# Altium footprint library consubd.PcbLib: 91 footprints (part 3 of 6)
Each footprint in its own frame and in the unit in brackets; x right, y up, seen from the top. Pads: shape width x height; smd on the part's side, far side on the other; paste and mask are expansions set on the pad; w line width, h text height; cw(c..) or ccw(c..) is an arc to the next point about the centre after c.
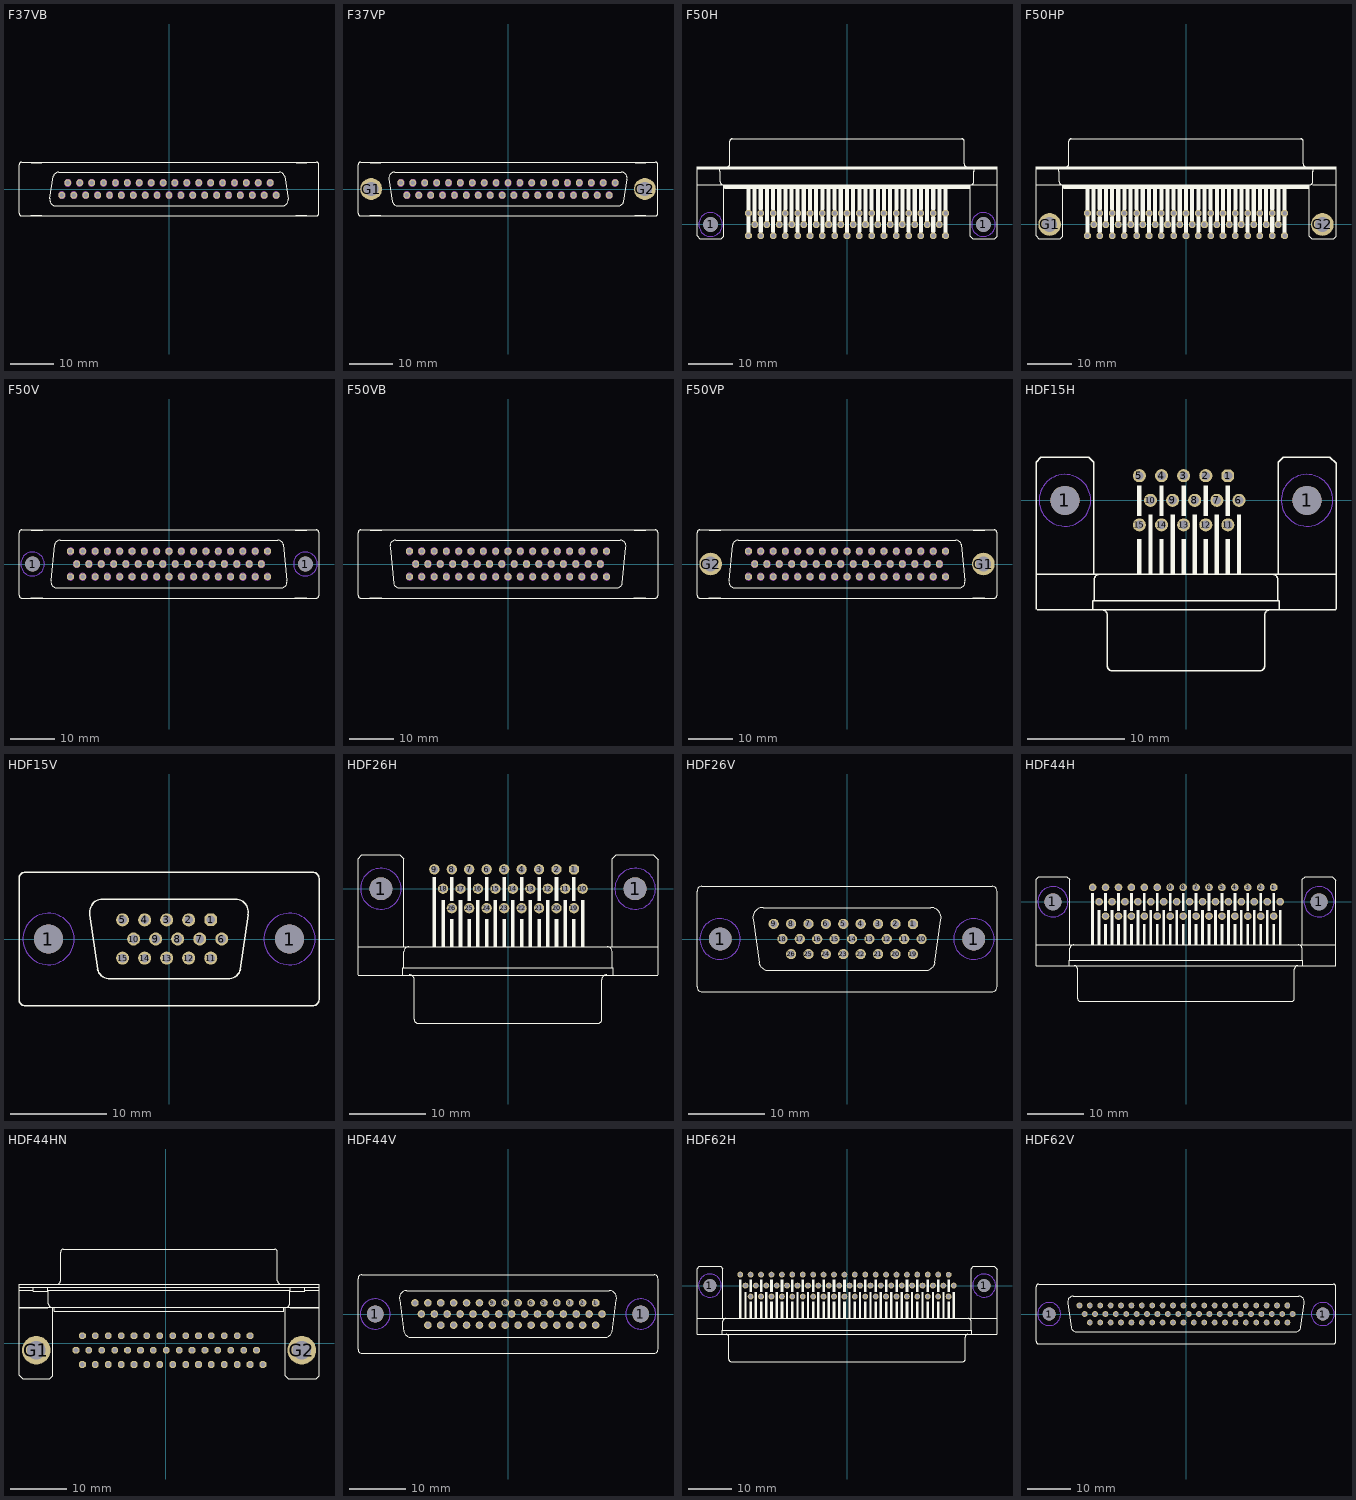
[diagram p2: the footprints below, top view; thin cyan lines are the x and y axes]

## F37VB [mil]
pads (37):
  oct 58.09x58.09 hole 40: 1(-978,-56) 2(-869,-56) 3(-761,-56) 4(-652,-56) 5(-543,-56) 6(-435,-56) 7(-326,-56) 8(-217,-56) 9(-109,-56) 10(0,-56) 11(109,-56) 12(217,-56) 13(326,-56) 14(435,-56) 15(544,-56) 16(652,-56) 17(761,-56) 18(870,-56) 19(978,-56) 20(-924,56) 21(-815,56) 22(-706,56) 23(-598,56) 24(-489,56) 25(-380,56) 26(-272,56) 27(-163,56) 28(-54,56) 29(54,56) 30(163,56) 31(272,56) 32(381,56) 33(489,56) 34(598,56) 35(707,56) 36(815,56) 37(924,56)
Top Overlay:
  lines w6: -1087,-91 -1056,115 ; -1086.79,-90.7 ccw(c-1035,-101.99) -1035,-155 1035,-155 ccw(c1035,-102) 1086.97,-91.61 ; -1056.52,114.37 cw(c-1004.99,102) -1005,155 1005,155 cw(c1005,101.99) 1056.3,115.33 ; 1056,116 1087,-92 ; -1260,-245 -1160,-245 ; -1260,-245 -1260,-240 -1160,-240 -1160,-245 ; -1260,-245 -1345,-245 cw(c-1345,-220) -1370,-220 -1370,220 cw(c-1345,220) -1345,245 -1260,245 ; -1260,245 -1260,240 -1160,240 -1160,245 ; -1260,245 -1160,245 ; -1160,-245 1160,-245 ; -1160,245 1160,245 ; 1160,-245 1260,-245 ; 1160,-245 1160,-240 1260,-240 1260,-245 ; 1160,245 1160,240 1260,240 1260,245 ; 1160,245 1260,245 ; 1260,-245 1345,-245 ccw(c1345,-220) 1370,-220 1370,220 ccw(c1345,220) 1345,245 1260,245
Mechanical 8:
  circle w10: c924,56 r30
  circle w10: c815,56 r30
  circle w10: c706,56 r30
  circle w10: c978,-56 r30
  circle w10: c869,-56 r30
  circle w10: c761,-56 r30
  circle w10: c-924,56 r30
  circle w10: c-815,56 r30
  circle w10: c-706,56 r30
  circle w10: c-978,-56 r30
  circle w10: c-869,-56 r30
  circle w10: c-761,-56 r30
  circle w10: c598,56 r30
  circle w10: c652,-56 r30
  circle w10: c543,-56 r30
  circle w10: c489,56 r30
  circle w10: c380,56 r30
  circle w10: c272,56 r30
  circle w10: c435,-56 r30
  circle w10: c326,-56 r30
  circle w10: c217,-56 r30
  circle w10: c-652,-56 r30
  circle w10: c-598,56 r30
  circle w10: c-543,-56 r30
  circle w10: c-489,56 r30
  circle w10: c-435,-56 r30
  circle w10: c-380,56 r30
  circle w10: c-272,56 r30
  circle w10: c-326,-56 r30
  circle w10: c-217,-56 r30
  circle w10: c163,56 r30
  circle w10: c-163,56 r30
  circle w10: c109,-56 r30
  circle w10: c-109,-56 r30
  circle w10: c54,56 r30
  circle w10: c0,-56 r30
  circle w10: c-54,56 r30

## F37VP [mil]
pads (39):
  oct 58.09x58.09 hole 40: 1(978,56) 2(869,56) 3(761,56) 4(652,56) 5(543,56) 6(435,56) 7(326,56) 8(217,56) 9(109,56) 10(0,56) 11(-109,56) 12(-217,56) 13(-326,56) 14(-435,56) 15(-544,56) 16(-652,56) 17(-761,56) 18(-870,56) 19(-978,56) 20(924,-56) 21(815,-56) 22(706,-56) 23(598,-56) 24(489,-56) 25(380,-56) 26(272,-56) 27(163,-56) 28(54,-56) 29(-54,-56) 30(-163,-56) 31(-272,-56) 32(-381,-56) 33(-489,-56) 34(-598,-56) 35(-707,-56) 36(-815,-56) 37(-924,-56)
  round 200 hole 130: G1(-1250,0) G2(1250,0)
Top Overlay:
  lines w6: -1087,92 -1056,-116 ; -1086.97,91.61 cw(c-1035,102) -1035,155 1035,155 cw(c1035,101.99) 1086.79,90.7 ; -1056.3,-115.33 ccw(c-1005,-101.99) -1005,-155 1005,-155 ccw(c1004.99,-102) 1056.52,-114.37 ; 1056,-115 1087,91 ; -1260,-245 -1345,-245 cw(c-1345,-220) -1370,-220 -1370,220 cw(c-1345,220) -1345,245 -1260,245 ; -1260,-245 -1160,-245 ; -1260,-245 -1260,-240 -1160,-240 -1160,-245 ; -1260,245 -1160,245 ; -1260,245 -1260,240 -1160,240 -1160,245 ; -1160,-245 1160,-245 ; -1160,245 1160,245 ; 1160,-245 1260,-245 ; 1160,-245 1160,-240 1260,-240 1260,-245 ; 1160,245 1260,245 ; 1160,245 1160,240 1260,240 1260,245 ; 1260,-245 1345,-245 ccw(c1345,-220) 1370,-220 1370,220 ccw(c1345,220) 1345,245 1260,245
Mechanical 8:
  circle w10: c-924,-56 r30
  circle w10: c-815,-56 r30
  circle w10: c-706,-56 r30
  circle w10: c-978,56 r30
  circle w10: c-869,56 r30
  circle w10: c-761,56 r30
  circle w10: c924,-56 r30
  circle w10: c815,-56 r30
  circle w10: c706,-56 r30
  circle w10: c978,56 r30
  circle w10: c869,56 r30
  circle w10: c761,56 r30
  circle w10: c-598,-56 r30
  circle w10: c-652,56 r30
  circle w10: c-543,56 r30
  circle w10: c-489,-56 r30
  circle w10: c-380,-56 r30
  circle w10: c-272,-56 r30
  circle w10: c-435,56 r30
  circle w10: c-326,56 r30
  circle w10: c-217,56 r30
  circle w10: c652,56 r30
  circle w10: c598,-56 r30
  circle w10: c543,56 r30
  circle w10: c489,-56 r30
  circle w10: c435,56 r30
  circle w10: c380,-56 r30
  circle w10: c272,-56 r30
  circle w10: c326,56 r30
  circle w10: c217,56 r30
  circle w10: c-163,-56 r30
  circle w10: c163,-56 r30
  circle w10: c-109,56 r30
  circle w10: c109,56 r30
  circle w10: c-54,-56 r30
  circle w10: c0,56 r30
  circle w10: c54,-56 r30

## F50H [mil]
pads (52):
  round 130 hole 130: 1(-1203,0) 1(1203,0)
  oct 58.09x58.09 hole 40: 1(-869,-100) 2(-761,-100) 3(-652,-100) 4(-543,-100) 5(-435,-100) 6(-326,-100) 7(-217,-100) 8(-109,-100) 9(0,-100) 10(109,-100) 11(217,-100) 12(326,-100) 13(435,-100) 14(543,-100) 15(652,-100) 16(761,-100) 17(869,-100) 18(-815,0) 19(-707,0) 20(-598,0) 21(-489,0) 22(-381,0) 23(-272,0) 24(-163,0) 25(-55,0) 26(54,0) 27(163,0) 28(271,0) 29(380,0) 30(489,0) 31(598,0) 32(706,0) 33(815,0) 34(-869,100) 35(-761,100) 36(-652,100) 37(-543,100) 38(-435,100) 39(-326,100) 40(-217,100) 41(-109,100) 42(0,100) 43(109,100) 44(217,100) 45(326,100) 46(435,100) 47(543,100) 48(652,100) 49(761,100) 50(869,100)
Top Layer keep-out:
  circle w0: c1203,0 r105
  circle w0: c-1203,0 r105
Bottom Layer keep-out:
  circle w0: c1203,0 r105
  circle w0: c-1203,0 r105
Top Overlay:
  drawing of 155 lines, arcs and shapes, not listed

## F50HP [mil]
pads (52):
  oct 58.09x58.09 hole 40: 1(-869,-100) 2(-761,-100) 3(-652,-100) 4(-543,-100) 5(-435,-100) 6(-326,-100) 7(-217,-100) 8(-109,-100) 9(0,-100) 10(109,-100) 11(217,-100) 12(326,-100) 13(435,-100) 14(543,-100) 15(652,-100) 16(761,-100) 17(869,-100) 18(-815,0) 19(-707,0) 20(-598,0) 21(-489,0) 22(-381,0) 23(-272,0) 24(-163,0) 25(-55,0) 26(54,0) 27(163,0) 28(271,0) 29(380,0) 30(489,0) 31(598,0) 32(706,0) 33(815,0) 34(-869,100) 35(-761,100) 36(-652,100) 37(-543,100) 38(-435,100) 39(-326,100) 40(-217,100) 41(-109,100) 42(0,100) 43(109,100) 44(217,100) 45(326,100) 46(435,100) 47(543,100) 48(652,100) 49(761,100) 50(869,100)
  round 200 hole 130: G1(-1203,0) G2(1203,0)
Top Overlay:
  drawing of 155 lines, arcs and shapes, not listed

## F50V [mil]
pads (52):
  round 130 hole 130: 1(-1203,0) 1(1203,0)
  oct 58.09x58.09 hole 40: 1(-869,-112) 2(-761,-112) 3(-652,-112) 4(-543,-112) 5(-435,-112) 6(-326,-112) 7(-217,-112) 8(-109,-112) 9(0,-112) 10(109,-112) 11(217,-112) 12(326,-112) 13(435,-112) 14(543,-112) 15(652,-112) 16(761,-112) 17(869,-112) 18(-815,0) 19(-706,0) 20(-598,0) 21(-489,0) 22(-380,0) 23(-272,0) 24(-163,0) 25(-54,0) 26(54,0) 27(163,0) 28(272,0) 29(380,0) 30(489,0) 31(598,0) 32(706,0) 33(815,0) 34(-869,112) 35(-761,112) 36(-652,112) 37(-543,112) 38(-435,112) 39(-326,112) 40(-217,112) 41(-109,112) 42(0,112) 43(109,112) 44(217,112) 45(326,112) 46(435,112) 47(543,112) 48(652,112) 49(761,112) 50(869,112)
Top Layer keep-out:
  circle w0: c-1203,0 r105
  circle w0: c1203,0 r105
Bottom Layer keep-out:
  circle w0: c-1203,0 r105
  circle w0: c1203,0 r105
Top Overlay:
  lines w6: -1040,-147 -1009,171 ; -1039.78,-146.7 ccw(c-988,-157.99) -988,-210.99 988,-211 ccw(c988,-158) 1039.97,-147.61 ; -1009.54,170.37 cw(c-957.99,158) -958,211.01 958,211 cw(c958,157.99) 1009.3,171.33 ; 1009,172 1040,-148 ; -1213,-301 -1298,-301 cw(c-1298,-276) -1323,-276 -1323,276 cw(c-1298,276) -1298,301 -1213,301 ; -1213,-301 -1213,-296 -1113,-296 -1113,-301 ; -1213,-301 -1113,-301 ; -1213,301 -1113,301 ; -1213,301 -1213,296 -1113,296 -1113,301 ; -1113,-301 1113,-301 ; -1113,301 1113,301 ; 1113,-301 1113,-296 1213,-296 1213,-301 ; 1113,-301 1213,-301 ; 1113,301 1213,301 ; 1113,301 1113,296 1213,296 1213,301 ; 1213,-301 1298,-301 ccw(c1298,-276) 1323,-276 1323,276 ccw(c1298,276) 1298,301 1213,301
Mechanical 8:
  circle w10: c-54,0 r30
  circle w10: c0,-112 r30
  circle w10: c54,0 r30
  circle w10: c-109,-112 r30
  circle w10: c109,-112 r30
  circle w10: c-163,0 r30
  circle w10: c163,0 r30
  circle w10: c-217,-112 r30
  circle w10: c-326,-112 r30
  circle w10: c-272,0 r30
  circle w10: c-380,0 r30
  circle w10: c-435,-112 r30
  circle w10: c-489,0 r30
  circle w10: c-543,-112 r30
  circle w10: c-598,0 r30
  circle w10: c-652,-112 r30
  circle w10: c217,-112 r30
  circle w10: c326,-112 r30
  circle w10: c435,-112 r30
  circle w10: c272,0 r30
  circle w10: c380,0 r30
  circle w10: c489,0 r30
  circle w10: c543,-112 r30
  circle w10: c652,-112 r30
  circle w10: c598,0 r30
  circle w10: c-761,-112 r30
  circle w10: c-869,-112 r30
  circle w10: c-706,0 r30
  circle w10: c-815,0 r30
  circle w10: c761,-112 r30
  circle w10: c869,-112 r30
  circle w10: c706,0 r30
  circle w10: c815,0 r30
  circle w10: c0,112 r30
  circle w10: c-109,112 r30
  circle w10: c109,112 r30
  circle w10: c-217,112 r30
  circle w10: c-326,112 r30
  circle w10: c-435,112 r30
  circle w10: c-543,112 r30
  circle w10: c-652,112 r30
  circle w10: c217,112 r30
  circle w10: c326,112 r30
  circle w10: c435,112 r30
  circle w10: c543,112 r30
  circle w10: c652,112 r30
  circle w10: c-761,112 r30
  circle w10: c-869,112 r30
  circle w10: c761,112 r30
  circle w10: c869,112 r30

## F50VB [mil]
pads (50):
  oct 58.09x58.09 hole 40: 1(869,112) 2(761,112) 3(652,112) 4(543,112) 5(435,112) 6(326,112) 7(217,112) 8(109,112) 9(0,112) 10(-109,112) 11(-217,112) 12(-326,112) 13(-435,112) 14(-543,112) 15(-652,112) 16(-761,112) 17(-869,112) 18(815,0) 19(706,0) 20(598,0) 21(489,0) 22(380,0) 23(272,0) 24(163,0) 25(54,0) 26(-54,0) 27(-163,0) 28(-272,0) 29(-380,0) 30(-489,0) 31(-598,0) 32(-706,0) 33(-815,0) 34(869,-112) 35(761,-112) 36(652,-112) 37(543,-112) 38(435,-112) 39(326,-112) 40(217,-112) 41(109,-112) 42(0,-112) 43(-109,-112) 44(-217,-112) 45(-326,-112) 46(-435,-112) 47(-543,-112) 48(-652,-112) 49(-761,-112) 50(-869,-112)
Top Overlay:
  lines w6: -1040,148 -1009,-172 ; -1039.97,147.61 cw(c-988,158) -988,211 988,211 cw(c988,157.99) 1039.78,146.7 ; -1009.3,-171.33 ccw(c-958,-157.99) -958,-211 958,-211 ccw(c957.99,-158) 1009.54,-170.37 ; 1009,-171 1040,147 ; -1213,-301 -1213,-296 -1113,-296 -1113,-301 ; -1213,-301 -1113,-301 ; -1213,-301 -1298,-301 cw(c-1298,-276) -1323,-276 -1323,276 cw(c-1298,276) -1298,301 -1213,301 ; -1213,301 -1213,296 -1113,296 -1113,301 ; -1213,301 -1113,301 ; -1113,-301 1113,-301 ; -1113,301 1113,301 ; 1113,-301 1113,-296 1213,-296 1213,-301 ; 1113,-301 1213,-301 ; 1113,301 1113,296 1213,296 1213,301 ; 1113,301 1213,301 ; 1213,-301 1298,-301 ccw(c1298,-276) 1323,-276 1323,276 ccw(c1298,276) 1298,301 1213,301
Mechanical 8:
  circle w10: c54,0 r30
  circle w10: c0,112 r30
  circle w10: c-54,0 r30
  circle w10: c109,112 r30
  circle w10: c-109,112 r30
  circle w10: c163,0 r30
  circle w10: c-163,0 r30
  circle w10: c217,112 r30
  circle w10: c326,112 r30
  circle w10: c272,0 r30
  circle w10: c380,0 r30
  circle w10: c435,112 r30
  circle w10: c489,0 r30
  circle w10: c543,112 r30
  circle w10: c598,0 r30
  circle w10: c652,112 r30
  circle w10: c-217,112 r30
  circle w10: c-326,112 r30
  circle w10: c-435,112 r30
  circle w10: c-272,0 r30
  circle w10: c-380,0 r30
  circle w10: c-489,0 r30
  circle w10: c-543,112 r30
  circle w10: c-652,112 r30
  circle w10: c-598,0 r30
  circle w10: c761,112 r30
  circle w10: c869,112 r30
  circle w10: c706,0 r30
  circle w10: c815,0 r30
  circle w10: c-761,112 r30
  circle w10: c-869,112 r30
  circle w10: c-706,0 r30
  circle w10: c-815,0 r30
  circle w10: c0,-112 r30
  circle w10: c109,-112 r30
  circle w10: c-109,-112 r30
  circle w10: c217,-112 r30
  circle w10: c326,-112 r30
  circle w10: c435,-112 r30
  circle w10: c543,-112 r30
  circle w10: c652,-112 r30
  circle w10: c-217,-112 r30
  circle w10: c-326,-112 r30
  circle w10: c-435,-112 r30
  circle w10: c-543,-112 r30
  circle w10: c-652,-112 r30
  circle w10: c761,-112 r30
  circle w10: c869,-112 r30
  circle w10: c-761,-112 r30
  circle w10: c-869,-112 r30

## F50VP [mil]
pads (52):
  oct 58.09x58.09 hole 40: 1(-869,-112) 2(-761,-112) 3(-652,-112) 4(-543,-112) 5(-435,-112) 6(-326,-112) 7(-217,-112) 8(-109,-112) 9(0,-112) 10(109,-112) 11(217,-112) 12(326,-112) 13(435,-112) 14(543,-112) 15(652,-112) 16(761,-112) 17(869,-112) 18(-815,0) 19(-706,0) 20(-598,0) 21(-489,0) 22(-380,0) 23(-272,0) 24(-163,0) 25(-54,0) 26(54,0) 27(163,0) 28(272,0) 29(380,0) 30(489,0) 31(598,0) 32(706,0) 33(815,0) 34(-869,112) 35(-761,112) 36(-652,112) 37(-543,112) 38(-435,112) 39(-326,112) 40(-217,112) 41(-109,112) 42(0,112) 43(109,112) 44(217,112) 45(326,112) 46(435,112) 47(543,112) 48(652,112) 49(761,112) 50(869,112)
  round 200 hole 130: G1(1203,0) G2(-1203,0)
Top Overlay:
  lines w6: -1040,-147 -1009,171 ; -1039.78,-146.7 ccw(c-988,-157.99) -988,-210.99 988,-211 ccw(c988,-158) 1039.97,-147.61 ; -1009.54,170.37 cw(c-957.99,158) -958,211.01 958,211 cw(c958,157.99) 1009.3,171.33 ; 1009,172 1040,-148 ; -1213,-301 -1298,-301 cw(c-1298,-276) -1323,-276 -1323,276 cw(c-1298,276) -1298,301 -1213,301 ; -1213,-301 -1213,-296 -1113,-296 -1113,-301 ; -1213,-301 -1113,-301 ; -1213,301 -1113,301 ; -1213,301 -1213,296 -1113,296 -1113,301 ; -1113,-301 1113,-301 ; -1113,301 1113,301 ; 1113,-301 1113,-296 1213,-296 1213,-301 ; 1113,-301 1213,-301 ; 1113,301 1213,301 ; 1113,301 1113,296 1213,296 1213,301 ; 1213,-301 1298,-301 ccw(c1298,-276) 1323,-276 1323,276 ccw(c1298,276) 1298,301 1213,301
Mechanical 8:
  circle w10: c-54,0 r30
  circle w10: c0,-112 r30
  circle w10: c54,0 r30
  circle w10: c-109,-112 r30
  circle w10: c109,-112 r30
  circle w10: c-163,0 r30
  circle w10: c163,0 r30
  circle w10: c-217,-112 r30
  circle w10: c-326,-112 r30
  circle w10: c-272,0 r30
  circle w10: c-380,0 r30
  circle w10: c-435,-112 r30
  circle w10: c-489,0 r30
  circle w10: c-543,-112 r30
  circle w10: c-598,0 r30
  circle w10: c-652,-112 r30
  circle w10: c217,-112 r30
  circle w10: c326,-112 r30
  circle w10: c435,-112 r30
  circle w10: c272,0 r30
  circle w10: c380,0 r30
  circle w10: c489,0 r30
  circle w10: c543,-112 r30
  circle w10: c652,-112 r30
  circle w10: c598,0 r30
  circle w10: c-761,-112 r30
  circle w10: c-869,-112 r30
  circle w10: c-706,0 r30
  circle w10: c-815,0 r30
  circle w10: c761,-112 r30
  circle w10: c869,-112 r30
  circle w10: c706,0 r30
  circle w10: c815,0 r30
  circle w10: c0,112 r30
  circle w10: c-109,112 r30
  circle w10: c109,112 r30
  circle w10: c-217,112 r30
  circle w10: c-326,112 r30
  circle w10: c-435,112 r30
  circle w10: c-543,112 r30
  circle w10: c-652,112 r30
  circle w10: c217,112 r30
  circle w10: c326,112 r30
  circle w10: c435,112 r30
  circle w10: c543,112 r30
  circle w10: c652,112 r30
  circle w10: c-761,112 r30
  circle w10: c-869,112 r30
  circle w10: c761,112 r30
  circle w10: c869,112 r30

## HDF15H [mm]
pads (17):
  round 3 hole 3: 1(-12.5,0) 1(12.5,0)
  oct 1.307x1.307 hole 0.9: 1(4.329,2.54)
  round 1.35 hole 0.9: 2(2.043,2.54) 3(-0.243,2.54) 4(-2.529,2.54) 5(-4.815,2.54) 6(5.472,0) 7(3.186,0) 8(0.9,0) 9(-1.386,0) 10(-3.672,0) 11(4.329,-2.54) 12(2.043,-2.54) 13(-0.243,-2.54) 14(-2.529,-2.54) 15(-4.815,-2.54)
Top Layer keep-out:
  circle w0: c-12.5,0 r2.667
  circle w0: c12.5,0 r2.667
Bottom Layer keep-out:
  circle w0: c-12.5,0 r2.667
  circle w0: c12.5,0 r2.667
Top Overlay:
  region: 4.129,-1.6 4.129,1.5 4.529,1.5 4.529,-1.6
  region: 1.843,-1.6 1.843,1.5 2.243,1.5 2.243,-1.6
  region: -0.443,-1.6 -0.443,1.5 -0.043,1.5 -0.043,-1.6
  region: -2.729,-1.6 -2.729,1.5 -2.329,1.5 -2.329,-1.6
  region: -5.015,-1.6 -5.015,1.5 -4.615,1.5 -4.615,-1.6
  region: 4.129,-7.6 4.129,-4 4.529,-4 4.529,-7.6
  region: 1.843,-7.6 1.843,-4 2.243,-4 2.243,-7.6
  region: -5.015,-7.6 -5.015,-4 -4.615,-4 -4.615,-7.6
  region: -2.729,-7.6 -2.729,-4 -2.329,-4 -2.329,-7.6
  region: -0.443,-7.6 -0.443,-4 -0.043,-4 -0.043,-7.6
  region: 5.272,-7.6 5.272,-1.5 5.672,-1.5 5.672,-7.6
  region: 2.986,-7.6 2.986,-1.5 3.386,-1.5 3.386,-7.6
  region: -3.872,-7.6 -3.872,-1.5 -3.472,-1.5 -3.472,-7.6
  region: -1.586,-7.6 -1.586,-1.5 -1.186,-1.5 -1.186,-7.6
  region: 0.7,-7.6 0.7,-1.5 1.1,-1.5 1.1,-7.6
  lines w0.152: -15.494,-11.276 -15.494,-7.62 ; -15.38,-11.294 15.476,-11.294 ; -9.614,-11.276 -9.614,-10.368 -9.487,-10.368 ; -9.525,-7.62 -9.525,3.937 -10.033,4.445 -14.986,4.445 -15.494,3.937 -15.494,-7.62 ; -8.852,-7.62 ccw(c-8.852,-8.255) -9.487,-8.255 -9.487,-10.368 ; -8.763,-11.284 cw(c-8.763,-11.919) -8.128,-11.919 -8.128,-17.099 ccw(c-7.62,-17.099) -7.62,-17.607 7.62,-17.607 ccw(c7.62,-17.099) 8.128,-17.099 8.128,-11.919 cw(c8.763,-11.919) 8.763,-11.284 ; 8.852,-7.62 cw(c8.852,-8.255) 9.487,-8.255 9.487,-10.368 ; 9.525,-7.62 9.525,3.937 10.033,4.445 14.859,4.445 15.494,3.81 15.494,-11.276 ; 9.614,-11.276 9.614,-10.368 9.487,-10.368 ; 15.475,-7.62 -15.494,-7.62 ; -9.487,-10.368 9.487,-10.368

## HDF15V [mm]
pads (17):
  round 3 hole 3: 1(-12.5,0) 1(12.5,0)
  oct 1.307x1.307 hole 0.9: 1(4.329,1.98)
  round 1.35 hole 0.9: 2(2.043,1.98) 3(-0.243,1.98) 4(-2.529,1.98) 5(-4.815,1.98) 6(5.472,0) 7(3.186,0) 8(0.9,0) 9(-1.386,0) 10(-3.672,0) 11(4.329,-1.98) 12(2.043,-1.98) 13(-0.243,-1.98) 14(-2.529,-1.98) 15(-4.815,-1.98)
Top Layer keep-out:
  circle w0: c-12.5,0 r2.667
  circle w0: c12.5,0 r2.667
Bottom Layer keep-out:
  circle w0: c-12.5,0 r2.667
  circle w0: c12.5,0 r2.667
Top Overlay:
  lines w0.152: -14.921,-6.923 cw(c-14.921,-6.288) -15.556,-6.288 -15.556,6.288 cw(c-14.921,6.288) -14.921,6.923 14.913,6.923 ; -14.913,-6.923 14.921,-6.923 ccw(c14.921,-6.288) 15.556,-6.288 15.556,6.288 ccw(c14.921,6.288) 14.921,6.923 ; -8.196,2.527 cw(c-6.876,2.791) -6.876,4.137 6.876,4.137 cw(c6.876,2.791) 8.191,2.504 ; -8.197,2.537 -7.409,-3.146 ; -7.417,-3.13 ccw(c-6.114,-2.791) -6.114,-4.137 6.114,-4.137 ccw(c6.114,-2.791) 7.417,-3.13 ; 7.409,-3.121 8.197,2.511

## HDF26H [mm]
pads (28):
  round 3 hole 3: 1(-16.65,0) 1(16.65,0)
  oct 1.307x1.307 hole 0.9: 1(8.639,2.54)
  round 1.35 hole 0.9: 2(6.353,2.54) 3(4.067,2.54) 4(1.781,2.54) 5(-0.505,2.54) 6(-2.791,2.54) 7(-5.077,2.54) 8(-7.363,2.54) 9(-9.649,2.54) 10(9.782,0) 11(7.496,0) 12(5.21,0) 13(2.924,0) 14(0.638,0) 15(-1.648,0) 16(-3.934,0) 17(-6.22,0) 18(-8.506,0) 19(8.639,-2.54) 20(6.353,-2.54) 21(4.067,-2.54) 22(1.781,-2.54) 23(-0.505,-2.54) 24(-2.791,-2.54) 25(-5.077,-2.54) 26(-7.363,-2.54)
Top Layer keep-out:
  circle w0: c16.65,0 r2.667
  circle w0: c-16.65,0 r2.667
Bottom Layer keep-out:
  circle w0: c16.65,0 r2.667
  circle w0: c-16.65,0 r2.667
Top Overlay:
  region: 5.01,-7.6 5.01,-1.5 5.41,-1.5 5.41,-7.6
  region: 2.724,-7.6 2.724,-1.5 3.124,-1.5 3.124,-7.6
  region: 0.438,-7.6 0.438,-1.5 0.838,-1.5 0.838,-7.6
  region: 7.296,-7.6 7.296,-1.5 7.696,-1.5 7.696,-7.6
  region: 9.582,-7.6 9.582,-1.5 9.982,-1.5 9.982,-7.6
  region: 3.867,-7.6 3.867,-4 4.267,-4 4.267,-7.6
  region: 1.581,-7.6 1.581,-4 1.981,-4 1.981,-7.6
  region: -0.705,-7.6 -0.705,-4 -0.305,-4 -0.305,-7.6
  region: 6.153,-7.6 6.153,-4 6.553,-4 6.553,-7.6
  region: 8.439,-7.6 8.439,-4 8.839,-4 8.839,-7.6
  region: -0.705,-1.6 -0.705,1.5 -0.305,1.5 -0.305,-1.6
  region: 1.581,-1.6 1.581,1.5 1.981,1.5 1.981,-1.6
  region: 3.867,-1.6 3.867,1.5 4.267,1.5 4.267,-1.6
  region: 6.153,-1.6 6.153,1.5 6.553,1.5 6.553,-1.6
  region: 8.439,-1.6 8.439,1.5 8.839,1.5 8.839,-1.6
  region: -6.42,-7.6 -6.42,-1.5 -6.02,-1.5 -6.02,-7.6
  region: -8.706,-7.6 -8.706,-1.5 -8.306,-1.5 -8.306,-7.6
  region: -4.134,-7.6 -4.134,-1.5 -3.734,-1.5 -3.734,-7.6
  region: -7.563,-7.6 -7.563,-4 -7.163,-4 -7.163,-7.6
  region: -5.277,-7.6 -5.277,-4 -4.877,-4 -4.877,-7.6
  region: -2.991,-7.6 -2.991,-4 -2.591,-4 -2.591,-7.6
  region: -1.848,-7.6 -1.848,-1.5 -1.448,-1.5 -1.448,-7.6
  region: -2.991,-1.6 -2.991,1.5 -2.591,1.5 -2.591,-1.6
  region: -5.277,-1.6 -5.277,1.5 -4.877,1.5 -4.877,-1.6
  region: -7.563,-1.6 -7.563,1.5 -7.163,1.5 -7.163,-1.6
  region: -9.849,-1.6 -9.849,1.5 -9.449,1.5 -9.449,-1.6
  region: -9.849,-7.6 -9.849,-1.5 -9.449,-1.5 -9.449,-7.6
  lines w0.152: -19.644,-11.276 -19.644,-7.62 ; -19.6,-11.3 19.6,-11.3 ; -13.764,-11.276 -13.764,-10.368 -13.637,-10.368 ; -13.675,-7.62 -13.675,3.937 -14.183,4.445 -19.136,4.445 -19.644,3.937 -19.644,-7.62 ; -13.002,-7.62 ccw(c-13.002,-8.255) -13.637,-8.255 -13.637,-10.368 ; -12.913,-11.284 cw(c-12.913,-11.919) -12.278,-11.919 -12.278,-17.099 ccw(c-11.77,-17.099) -11.77,-17.607 11.77,-17.607 ccw(c11.77,-17.099) 12.278,-17.099 12.278,-11.919 cw(c12.913,-11.919) 12.913,-11.284 ; 13.002,-7.62 cw(c13.002,-8.255) 13.637,-8.255 13.637,-10.368 ; 13.675,-7.62 13.675,3.937 14.183,4.445 19.009,4.445 19.644,3.81 19.644,-11.276 ; 13.764,-11.276 13.764,-10.368 13.637,-10.368 ; 19.556,-7.62 -19.644,-7.62 ; -13.637,-10.368 13.637,-10.368

## HDF26V [mm]
pads (28):
  round 3 hole 3: 1(-16.65,0) 1(16.65,0)
  oct 1.307x1.307 hole 0.9: 1(8.658,1.98)
  round 1.35 hole 0.9: 2(6.372,1.98) 3(4.086,1.98) 4(1.8,1.98) 5(-0.486,1.98) 6(-2.772,1.98) 7(-5.058,1.98) 8(-7.344,1.98) 9(-9.63,1.98) 10(9.801,0) 11(7.515,0) 12(5.229,0) 13(2.943,0) 14(0.657,0) 15(-1.629,0) 16(-3.915,0) 17(-6.201,0) 18(-8.487,0) 19(8.658,-1.98) 20(6.372,-1.98) 21(4.086,-1.98) 22(1.8,-1.98) 23(-0.486,-1.98) 24(-2.772,-1.98) 25(-5.058,-1.98) 26(-7.344,-1.98)
Top Layer keep-out:
  circle w0: c16.672,0 r2.667
  circle w0: c-16.672,0 r2.667
Bottom Layer keep-out:
  circle w0: c16.672,0 r2.667
  circle w0: c-16.672,0 r2.667
Top Overlay:
  lines w0.152: -19.071,-6.923 cw(c-19.071,-6.288) -19.706,-6.288 -19.706,6.288 cw(c-19.071,6.288) -19.071,6.923 19.063,6.923 ; -19.063,-6.923 19.071,-6.923 ccw(c19.071,-6.288) 19.706,-6.288 19.706,6.288 ccw(c19.071,6.288) 19.071,6.923 ; -12.347,2.537 -11.559,-3.146 ; -12.346,2.527 cw(c-11.026,2.791) -11.026,4.137 11.026,4.137 cw(c11.026,2.79) 12.342,2.504 ; -11.567,-3.13 ccw(c-10.264,-2.791) -10.264,-4.137 10.264,-4.137 ccw(c10.264,-2.791) 11.567,-3.13 ; 11.559,-3.121 12.347,2.511

## HDF44H [mm]
pads (46):
  round 3 hole 3: 1(-23.52,0) 1(23.52,0)
  oct 1.307x1.307 hole 0.9: 1(15.497,2.54)
  round 1.35 hole 0.9: 2(13.211,2.54) 3(10.925,2.54) 4(8.639,2.54) 5(6.353,2.54) 6(4.067,2.54) 7(1.781,2.54) 8(-0.505,2.54) 9(-2.791,2.54) 10(-5.077,2.54) 11(-7.363,2.54) 12(-9.649,2.54) 13(-11.935,2.54) 14(-14.221,2.54) 15(-16.507,2.54) 16(16.64,0) 17(14.354,0) 18(12.068,0) 19(9.782,0) 20(7.496,0) 21(5.21,0) 22(2.924,0) 23(0.638,0) 24(-1.648,0) 25(-3.934,0) 26(-6.22,0) 27(-8.506,0) 28(-10.792,0) 29(-13.078,0) 30(-15.364,0) 31(15.497,-2.54) 32(13.211,-2.54) 33(10.925,-2.54) 34(8.639,-2.54) 35(6.353,-2.54) 36(4.067,-2.54) 37(1.781,-2.54) 38(-0.505,-2.54) 39(-2.791,-2.54) 40(-5.077,-2.54) 41(-7.363,-2.54) 42(-9.649,-2.54) 43(-11.935,-2.54) 44(-14.221,-2.54)
Top Layer keep-out:
  circle w0: c23.52,0 r2.667
  circle w0: c-23.52,0 r2.667
Bottom Layer keep-out:
  circle w0: c23.52,0 r2.667
  circle w0: c-23.52,0 r2.667
Top Overlay:
  drawing of 74 lines, arcs and shapes, not listed

## HDF44HN [mil]
pads (46):
  oct 46.48x46.48 hole 32: 1(-580,-150) 2(-490,-150) 3(-400,-150) 4(-310,-150) 5(-220,-150) 6(-130,-150) 7(-40,-150) 8(50,-150) 9(140,-150) 10(230,-150) 11(320,-150) 12(410,-150) 13(500,-150) 14(590,-150) 15(680,-150) 16(-625,-50) 17(-535,-50) 18(-445,-50) 19(-355,-50) 20(-265,-50) 21(-175,-50) 22(-85,-50) 23(5,-50) 24(95,-50) 25(185,-50) 26(275,-50) 27(365,-50) 28(455,-50) 29(545,-50) 30(635,-50) 31(-580,50) 32(-490,50) 33(-400,50) 34(-310,50) 35(-220,50) 36(-130,50) 37(-40,50) 38(50,50) 39(140,50) 40(230,50) 41(320,50) 42(410,50) 43(500,50) 44(590,50)
  round 200 hole 130: G1(-903,-50) G2(951.43,-50)
Top Overlay:
  lines w6: -793,250 cw(c-793,275) -818,275 -818,370 ; -758,410 ccw(c-758,435) -733,435 -733,635 cw(c-713,635) -713,655 761.42,655 cw(c761.42,635) 781.42,635 781.42,435 ccw(c806.42,435) 806.42,410 ; 841.42,250 ccw(c841.42,275) 866.42,275 866.42,370 ; -1023,245 -1023,250 ; -1023,245 -823,245 -823,250 ; -1023,245 -1023,-225 -998,-250 -808,-250 -788,-230 -788,250 ; -1023,250 -823,250 ; -1023,250 -1023,370 ; -1023,370 -923,370 ; -1023,370 -1023,390 ; -1023,390 -1023,410 1071.42,410 1071.42,390 ; -1023,390 -923,390 ; -923,370 -923,390 ; -923,370 -923,360 -823,360 -823,370 ; -923,390 -823,390 ; -823,250 -788,250 ; -823,370 -823,390 ; -823,370 -818,370 ; -823,390 871.42,390 ; -818,370 866.42,370 ; -788,250 -778,250 ; -778,250 -778,220 826.42,220 826.42,250 ; -778,250 826.42,250 ; 826.42,250 836.42,250 ; 836.42,250 871.42,250 ; 836.42,250 836.42,-230 856.42,-250 1051.42,-250 1071.42,-230 1071.42,245 ; 866.42,370 871.42,370 ; 871.42,250 871.42,245 1071.42,245 ; 871.42,250 1071.42,250 ; 871.42,370 871.42,360 971.42,360 971.42,370 ; 871.42,370 871.42,390 ; 871.42,390 971.42,390 ; 971.42,370 971.42,390 ; 971.42,370 1071.42,370 ; 971.42,390 1071.42,390 ; 1071.42,245 1071.42,250 ; 1071.42,250 1071.42,370 ; 1071.42,370 1071.42,390

## HDF44V [mm]
pads (46):
  round 3 hole 3: 1(-23.52,0) 1(23.52,0)
  oct 1.307x1.307 hole 0.9: 1(15.516,1.98)
  round 1.35 hole 0.9: 2(13.23,1.98) 3(10.944,1.98) 4(8.658,1.98) 5(6.372,1.98) 6(4.086,1.98) 7(1.8,1.98) 8(-0.486,1.98) 9(-2.772,1.98) 10(-5.058,1.98) 11(-7.344,1.98) 12(-9.63,1.98) 13(-11.916,1.98) 14(-14.202,1.98) 15(-16.488,1.98) 16(16.659,0) 17(14.373,0) 18(12.087,0) 19(9.801,0) 20(7.515,0) 21(5.229,0) 22(2.943,0) 23(0.657,0) 24(-1.629,0) 25(-3.915,0) 26(-6.201,0) 27(-8.487,0) 28(-10.773,0) 29(-13.059,0) 30(-15.345,0) 31(15.516,-1.98) 32(13.23,-1.98) 33(10.944,-1.98) 34(8.658,-1.98) 35(6.372,-1.98) 36(4.086,-1.98) 37(1.8,-1.98) 38(-0.486,-1.98) 39(-2.772,-1.98) 40(-5.058,-1.98) 41(-7.344,-1.98) 42(-9.63,-1.98) 43(-11.916,-1.98) 44(-14.202,-1.98)
Top Layer keep-out:
  circle w0: c23.52,0 r2.667
  circle w0: c-23.52,0 r2.667
Bottom Layer keep-out:
  circle w0: c23.52,0 r2.667
  circle w0: c-23.52,0 r2.667
Top Overlay:
  lines w0.152: -25.941,-6.923 cw(c-25.941,-6.288) -26.576,-6.288 -26.576,6.288 cw(c-25.941,6.288) -25.941,6.923 25.933,6.923 ; -25.933,-6.923 25.941,-6.923 ccw(c25.941,-6.288) 26.576,-6.288 26.576,6.288 ccw(c25.941,6.288) 25.941,6.923 ; -19.216,2.527 cw(c-17.896,2.791) -17.896,4.137 17.896,4.137 cw(c17.896,2.791) 19.212,2.504 ; -19.217,2.537 -18.429,-3.146 ; -18.437,-3.13 ccw(c-17.134,-2.791) -17.134,-4.137 17.134,-4.137 ccw(c17.134,-2.791) 18.437,-3.13 ; 18.429,-3.121 19.217,2.511

## HDF62H [mm]
pads (64):
  round 3 hole 3: 1(-31.75,0) 1(31.75,0)
  oct 1.307x1.307 hole 0.9: 1(23.527,2.54)
  round 1.35 hole 0.9: 2(21.114,2.54) 3(18.701,2.54) 4(16.288,2.54) 5(13.875,2.54) 6(11.462,2.54) 7(9.049,2.54) 8(6.636,2.54) 9(4.223,2.54) 10(1.81,2.54) 11(-0.603,2.54) 12(-3.016,2.54) 13(-5.429,2.54) 14(-7.842,2.54) 15(-10.255,2.54) 16(-12.668,2.54) 17(-15.081,2.54) 18(-17.494,2.54) 19(-19.907,2.54) 20(-22.32,2.54) 21(-24.733,2.54) 22(24.734,0) 23(22.321,0) 24(19.908,0) 25(17.495,0) 26(15.082,0) 27(12.669,0) 28(10.256,0) 29(7.843,0) 30(5.43,0) 31(3.017,0) 32(0.604,0) 33(-1.809,0) 34(-4.222,0) 35(-6.635,0) 36(-9.048,0) 37(-11.461,0) 38(-13.874,0) 39(-16.287,0) 40(-18.7,0) 41(-21.113,0) 42(-23.526,0) 43(23.527,-2.54) 44(21.114,-2.54) 45(18.701,-2.54) 46(16.288,-2.54) 47(13.875,-2.54) 48(11.462,-2.54) 49(9.049,-2.54) 50(6.636,-2.54) 51(4.223,-2.54) 52(1.81,-2.54) 53(-0.603,-2.54) 54(-3.016,-2.54) 55(-5.429,-2.54) 56(-7.842,-2.54) 57(-10.255,-2.54) 58(-12.668,-2.54) 59(-15.081,-2.54) 60(-17.494,-2.54) 61(-19.907,-2.54) 62(-22.32,-2.54)
Top Layer keep-out:
  circle w0: c31.75,0 r2.667
  circle w0: c-31.75,0 r2.667
Bottom Layer keep-out:
  circle w0: c31.75,0 r2.667
  circle w0: c-31.75,0 r2.667
Top Overlay:
  drawing of 91 lines, arcs and shapes, not listed

## HDF62V [mm]
pads (64):
  round 3 hole 3: 1(-31.75,0) 1(31.75,0)
  oct 1.307x1.307 hole 0.9: 1(23.532,1.98)
  round 1.35 hole 0.9: 2(21.119,1.98) 3(18.706,1.98) 4(16.293,1.98) 5(13.88,1.98) 6(11.467,1.98) 7(9.054,1.98) 8(6.641,1.98) 9(4.228,1.98) 10(1.815,1.98) 11(-0.598,1.98) 12(-3.011,1.98) 13(-5.424,1.98) 14(-7.837,1.98) 15(-10.25,1.98) 16(-12.663,1.98) 17(-15.076,1.98) 18(-17.489,1.98) 19(-19.902,1.98) 20(-22.315,1.98) 21(-24.728,1.98) 22(24.739,0) 23(22.325,0) 24(19.912,0) 25(17.499,0) 26(15.086,0) 27(12.673,0) 28(10.26,0) 29(7.847,0) 30(5.434,0) 31(3.021,0) 32(0.608,0) 33(-1.805,0) 34(-4.218,0) 35(-6.631,0) 36(-9.044,0) 37(-11.457,0) 38(-13.87,0) 39(-16.283,0) 40(-18.696,0) 41(-21.109,0) 42(-23.522,0) 43(23.532,-1.98) 44(21.119,-1.98) 45(18.706,-1.98) 46(16.293,-1.98) 47(13.88,-1.98) 48(11.467,-1.98) 49(9.054,-1.98) 50(6.641,-1.98) 51(4.228,-1.98) 52(1.815,-1.98) 53(-0.598,-1.98) 54(-3.011,-1.98) 55(-5.424,-1.98) 56(-7.837,-1.98) 57(-10.25,-1.98) 58(-12.663,-1.98) 59(-15.076,-1.98) 60(-17.489,-1.98) 61(-19.902,-1.98) 62(-22.315,-1.98)
Top Layer keep-out:
  circle w0: c31.75,0 r2.667
  circle w0: c-31.75,0 r2.667
Bottom Layer keep-out:
  circle w0: c31.75,0 r2.667
  circle w0: c-31.75,0 r2.667
Top Overlay:
  lines w0.152: -34.171,-6.923 cw(c-34.171,-6.288) -34.806,-6.288 -34.806,6.288 cw(c-34.171,6.288) -34.171,6.923 34.163,6.923 ; -34.163,-6.923 34.171,-6.923 ccw(c34.171,-6.288) 34.806,-6.288 34.806,6.288 ccw(c34.171,6.288) 34.171,6.923 ; -27.447,2.537 -26.659,-3.146 ; -27.446,2.527 cw(c-26.126,2.791) -26.126,4.137 26.126,4.137 cw(c26.126,2.791) 27.441,2.504 ; -26.667,-3.13 ccw(c-25.364,-2.791) -25.364,-4.137 25.364,-4.137 ccw(c25.364,-2.791) 26.667,-3.13 ; 26.659,-3.121 27.447,2.511